# Altium footprint library HEADER-2x5_SMD.PcbLib: 1 footprints
Each footprint in its own frame and in the unit in brackets; x right, y up, seen from the top. Pads: shape width x height; smd on the part's side, far side on the other; paste and mask are expansions set on the pad; w line width, h text height; cw(c..) or ccw(c..) is an arc to the next point about the centre after c.
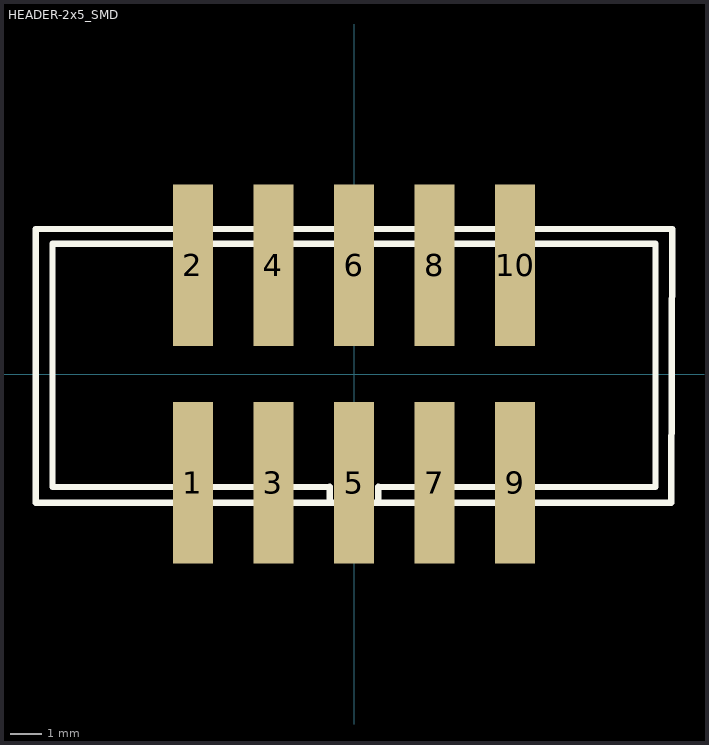
[diagram p0: the footprint, top view; thin cyan lines are the x and y axes]

## HEADER-2x5_SMD [mil]
height 366.14
pads (10):
  rect 50x200 smd: 1(-200,-135) 2(-200,135) 3(-100,-135) 4(-100,135) 5(0,-135) 6(0,135) 7(100,-135) 8(100,135) 9(200,-135) 10(200,135)
Top Overlay:
  lines w7.87: -30,-160 -30,-140 -374.25,-140.31 -374.25,161.61 374.21,161.61 374.21,-140.31 30,-140 30,-160
  lines w8: -395,-160 393.9,-160 395,180 -395,180 -395,-160
3D body: height 366.14, standoff 0, extent -395.02,-160.02 395.02,180.02